# Altium schematic symbol library 1190363.SchLib: 1 symbol
Pins are listed as number, name and electrical type; pins without a type are passive.

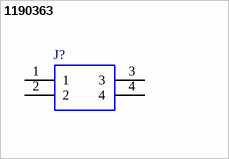
[diagram p0: symbol 1190363]

## 1190363
designator J?
PCB terminal block, nominal current: 24 A, number of potentials: 2, Solder pin [P]: 3.5 mm.; Manufacturer_Name: Phoenix Contact; Geometry.Height: 20.28mm; Mouser Part Number: 651-1190363; Mouser Price/Stock: https://www.mouser.co.uk/ProductDetail/Phoenix-Contact/1190363?qs=QNEnbhJQKvZM1o20TNh%252B9Q%3D%3D; Manufacturer_Part_Number: 1190363; Datasheet Link: https://www.phoenixcontact.com/en-us/products/printed-circuit-board-terminal-lpta-25-2-50-1190363
footprint 1190363
pins: 1, 2, 3, 4